# Altium integrated library NSC Peripheral Bus Interface Controller.IntLib: 2 symbols
Pins are listed as number, name and electrical type; pins without a type are passive.

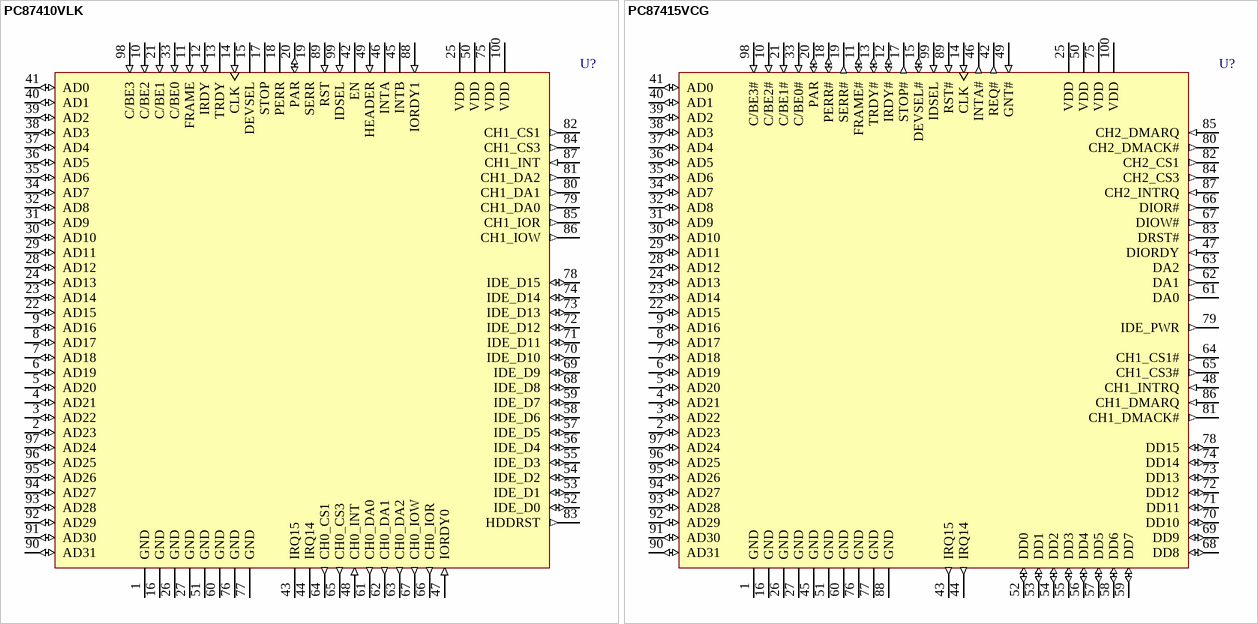
[diagram p0: symbols PC87410VLK to PC87415VCG]

## PC87410VLK
designator U?
PCI-IDE Interface Controller; ComponentAvailability: Obsolete; Published: 15-Apr-2002; LatestRevisionDate: 13-Apr-2006; LatestRevisionNote: IPC-7351 Footprint Added.; DatasheetVersion: Oct-1994; PackageVersion: Oct-1994; PackageReference: VLK100A; Publisher: Altium Limited; PackageDescription: 100-Pin Quad Flat Pack Rectangular 0.65 mm Pitch; ComponentLink1Description: Manufacturer Link; ComponentLink1URL: http://www.national.com/; ComponentLink2Description: Discontinuation Notice; ComponentLink2URL: http://www.national.com/obs/obsolescence.txt
footprint VLK100A_N (QFP, 100-Leads, Body 20x14mm, Pitch 0.65mm, IPC Medium Density)
footprint VLK100A_L (QFP, 100-Leads, Body 20x14mm, Pitch 0.65mm, IPC High Density)
footprint VLK100A_M (QFP, 100-Leads, Body 20x14mm, Pitch 0.65mm, IPC Low Density)
3D model PC87410-VLK100A (100-Pin Quad Flat Pack Rectangular 0.65 mm Pitch)
pins: 1 GND (power), 2 AD23 (io), 3 AD22 (io), 4 AD21 (io), 5 AD20 (io), 6 AD19 (io), 7 AD18 (io), 8 AD17 (io), 9 AD16 (io), 10 C/BE2 (in), 11 FRAME (in), 12 IRDY (in), 13 TRDY (hiz), 14 CLK (in), 15 DEVSEL (hiz), 16 GND (power), 17 STOP (hiz), 18 PERR (hiz), 19 SERR (hiz), 20 PAR (io), 21 C/BE1 (in), 22 AD15 (io), 23 AD14 (io), 24 AD13 (io), 25 VDD (power), 26 GND (power), 27 GND (power), 28 AD12 (io), 29 AD11 (io), 30 AD10 (io), 31 AD9 (io), 32 AD8 (io), 33 C/BE0 (in), 34 AD7 (io), 35 AD6 (io), 36 AD5 (io), 37 AD4 (io), 38 AD3 (io), 39 AD2 (io), 40 AD1 (io), 41 AD0 (io), 42 EN, 43 IRQ15 (hiz), 44 IRQ14 (hiz), 45 INTB (hiz), 46 INTA (hiz), 47 IORDY0 (in), 48 CH0_INT (in), 49 HEADER (in), 50 VDD (power), 51 GND (power), 52 IDE_D0 (io), 53 IDE_D1 (io), 54 IDE_D2 (io), 55 IDE_D3 (io), 56 IDE_D4 (io), 57 IDE_D5 (io), 58 IDE_D6 (io), 59 IDE_D7 (io), 60 GND (power), 61 CH0_DA0 (out), 62 CH0_DA1 (out), 63 CH0_DA2 (out), 64 CH0_CS1 (out), 65 CH0_CS3 (out), 66 CH0_IOR (out), 67 CH0_IOW (out), 68 IDE_D8 (io), 69 IDE_D9 (io), 70 IDE_D10 (io), 71 IDE_D11 (io), 72 IDE_D12 (io), 73 IDE_D13 (io), 74 IDE_D14 (io), 75 VDD (power), 76 GND (power), 77 GND (power), 78 IDE_D15 (io), 79 CH1_DA0 (out), 80 CH1_DA1 (out), 81 CH1_DA2 (out), 82 CH1_CS1 (out), 83 HDDRST (out), 84 CH1_CS3 (out), 85 CH1_IOR (out), 86 CH1_IOW (out), 87 CH1_INT (in), 88 IORDY1 (in), 89 RST (in), 90 AD31 (io), 91 AD30 (io), 92 AD29 (io), 93 AD28 (io), 94 AD27 (io), 95 AD26 (io), 96 AD25 (io), 97 AD24 (io), 98 C/BE3 (in), 99 IDSEL (in), 100 VDD (power)

## PC87415VCG
designator U?
PCI-IDE DMA Master Mode Interface Controller; ComponentAvailability: Obsolete; Published: 15-Apr-2002; LatestRevisionDate: 13-Apr-2006; LatestRevisionNote: IPC-7351 Footprint Added.; DatasheetVersion: Mar-1996; PackageVersion: Mar-1996; PackageReference: VCG100A; Publisher: Altium Limited; PackageDescription: 100-Pin Quad Flat Pack Rectangular 0.65 mm Pitch; ComponentLink1Description: Manufacturer Link; ComponentLink1URL: http://www.national.com/; ComponentLink2Description: Discontinuation Notice; ComponentLink2URL: http://www.national.com/obs/obsolescence.txt
footprint VCG100A_N (QFP, 100-Leads, Body 20x14mm, Pitch 0.65mm, IPC Medium Density)
footprint VCG100A_L (QFP, 100-Leads, Body 20x14mm, Pitch 0.65mm, IPC High Density)
footprint VCG100A_M (QFP, 100-Leads, Body 20x14mm, Pitch 0.65mm, IPC Low Density)
3D model PC87415-VCG100A (100-Pin Quad Flat Pack Rectangular 0.65 mm Pitch)
pins: 1 GND (power), 2 AD23 (io), 3 AD22 (io), 4 AD21 (io), 5 AD20 (io), 6 AD19 (io), 7 AD18 (io), 8 AD17 (io), 9 AD16 (io), 10 C/BE2# (in), 11 FRAME# (io), 12 IRDY# (io), 13 TRDY# (io), 14 CLK (in), 15 DEVSEL# (io), 16 GND (power), 17 STOP# (out), 18 PERR# (io), 19 SERR# (out), 20 PAR (io), 21 C/BE1# (in), 22 AD15 (io), 23 AD14 (io), 24 AD13 (io), 25 VDD (power), 26 GND (power), 27 GND (power), 28 AD12 (io), 29 AD11 (io), 30 AD10 (io), 31 AD9 (io), 32 AD8 (io), 33 C/BE0# (in), 34 AD7 (io), 35 AD6 (io), 36 AD5 (io), 37 AD4 (io), 38 AD3 (io), 39 AD2 (io), 40 AD1 (io), 41 AD0 (io), 42 REQ# (out), 43 IRQ15 (out), 44 IRQ14 (out), 45 GND (power), 46 INTA# (out), 47 DIORDY (in), 48 CH1_INTRQ (in), 49 GNT# (in), 50 VDD (power), 51 GND (power), 52 DD0 (io), 53 DD1 (io), 54 DD2 (io), 55 DD3 (io), 56 DD4 (io), 57 DD5 (io), 58 DD6 (io), 59 DD7 (io), 60 GND (power), 61 DA0 (out), 62 DA1 (out), 63 DA2 (out), 64 CH1_CS1# (out), 65 CH1_CS3# (out), 66 DIOR# (out), 67 DIOW# (out), 68 DD8 (io), 69 DD9 (io), 70 DD10 (io), 71 DD11 (io), 72 DD12 (io), 73 DD13 (io), 74 DD14 (io), 75 VDD (power), 76 GND (power), 77 GND (power), 78 DD15 (io), 79 IDE_PWR (out), 80 CH2_DMACK# (out), 81 CH1_DMACK# (out), 82 CH2_CS1 (out), 83 DRST# (out), 84 CH2_CS3 (out), 85 CH2_DMARQ (in), 86 CH1_DMARQ (in), 87 CH2_INTRQ (in), 88 GND (power), 89 RST# (in), 90 AD31 (io), 91 AD30 (io), 92 AD29 (io), 93 AD28 (io), 94 AD27 (io), 95 AD26 (io), 96 AD25 (io), 97 AD24 (io), 98 C/BE3# (in), 99 IDSEL (in), 100 VDD (power)